# Altium integrated library ON Semi Schottky Diodes & Schottky Rectifiers.IntLib: 755 symbols (part 4 of 17)
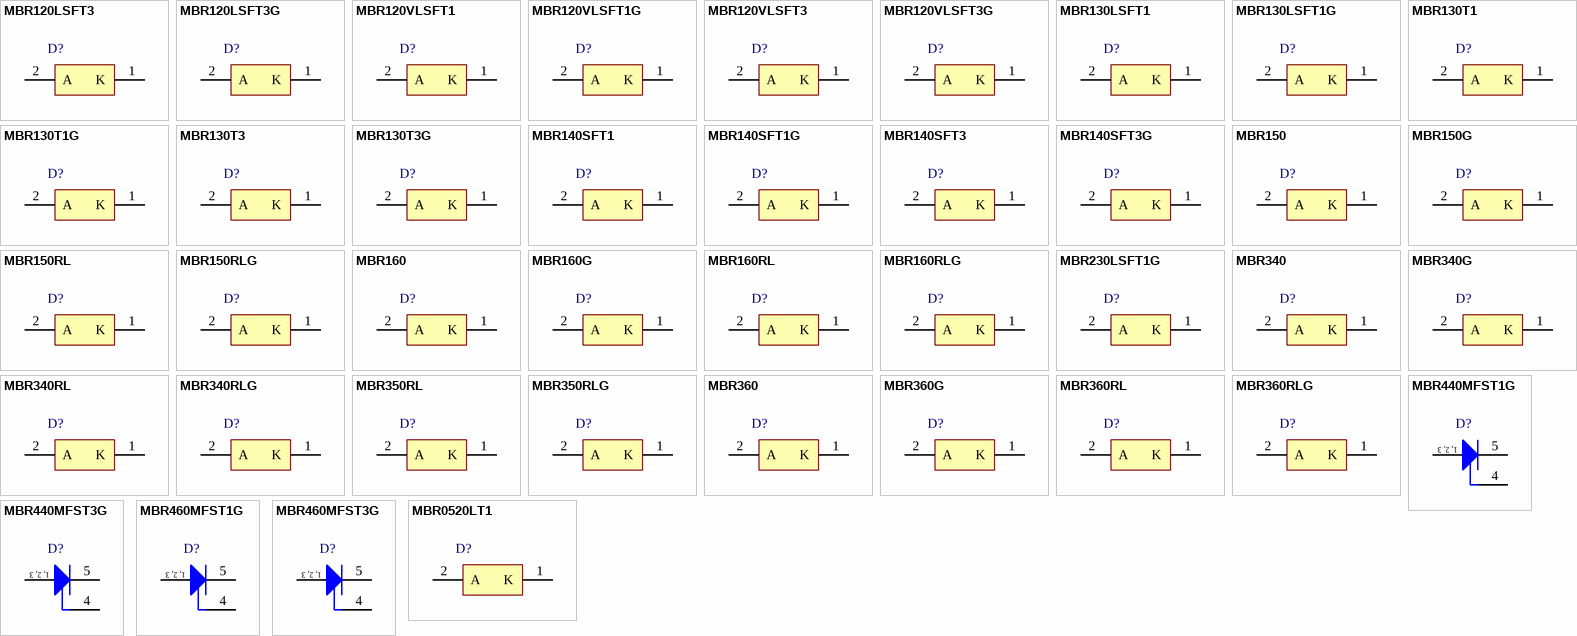
[diagram p22: symbols MBR120LSFT3 to MBR0520LT1]

## MBR360G
designator D?
Rectifier, 2-Pin Axial_Lead, Pb-Free, Bulk Bag; Manufacturer: On Semiconductor; PartNumber: MBR360G; Configuration: Single; IFSM Max (A): 80; DatasheetVersion: Rev. 6; PackageVersion: Rev. G, 06/2000; PackageReference: AXIAL_LEAD-2-267-05; PackageDescription: 2-Pin, Axial Lead, Diameter 5.05 mm; Supplier 1: Digi-Key; Supplier Part Number 1: MBR360GOS-ND; Supplier 2: Farnell; Supplier Part Number 2: 1126228; Supplier 3: Newark; Supplier Part Number 3: 42K0017; Supplier 4: Mouser; Supplier Part Number 4: 863-MBR360G; Packing: Bulk Bag; RoHS: TRUE; Mounting Technology: Through Hole; ComponentLink1Description: Manufacturer URL; ComponentLink1URL: http://www.onsemi.com/; ComponentLink2Description: Datasheet; ComponentLink2URL: http://www.onsemi.cn/pub_link/Collateral/MBR350-D.PDF; ComponentLink3Description: Package Specification; ComponentLink3URL: http://www.onsemi.com/pub_link/Collateral/267-05.PDF
footprint ONSC-AXIAL_LEAD-2-267-05_V (AXIAL, 2-Leads, Diameter 5.05mm)
pins: 1 K, 2 A

## MBR360RL
designator D?
Rectifier, 2-Pin Axial_Lead, Tape and Reel; Manufacturer: On Semiconductor; PartNumber: MBR360RL; Configuration: Single; IFSM Max (A): 80; DatasheetVersion: Rev. 6; PackageVersion: Rev. G, 06/2000; PackageReference: AXIAL_LEAD-2-267-05; PackageDescription: 2-Pin, Axial Lead, Diameter 5.05 mm; Supplier 1: Digi-Key; Supplier Part Number 1: MBR360RLOSTR-ND; Supplier 2: Mouser; Supplier Part Number 2: 863-MBR360RL; Packing: Tape and Reel; RoHS: FALSE; Mounting Technology: Through Hole; ComponentLink1Description: Manufacturer URL; ComponentLink1URL: http://www.onsemi.com/; ComponentLink2Description: Datasheet; ComponentLink2URL: http://www.onsemi.cn/pub_link/Collateral/MBR350-D.PDF; ComponentLink3Description: Package Specification; ComponentLink3URL: http://www.onsemi.com/pub_link/Collateral/267-05.PDF
footprint ONSC-AXIAL_LEAD-2-267-05_V (AXIAL, 2-Leads, Diameter 5.05mm)
pins: 1 K, 2 A

## MBR360RLG
designator D?
Rectifier, 2-Pin Axial_Lead, Pb-Free, Tape and Reel; Manufacturer: On Semiconductor; PartNumber: MBR360RLG; Configuration: Single; IFSM Max (A): 80; DatasheetVersion: Rev. 6; PackageVersion: Rev. G, 06/2000; PackageReference: AXIAL_LEAD-2-267-05; PackageDescription: 2-Pin, Axial Lead, Diameter 5.05 mm; Supplier 1: Digi-Key; Supplier Part Number 1: MBR360RLGOSTR-ND; Supplier 2: Digi-Key; Supplier Part Number 2: MBR360RLGOSCT-ND; Supplier 3: Farnell; Supplier Part Number 3: 1431063; Supplier 4: Newark; Supplier Part Number 4: 58M8804; Supplier 5: Newark; Supplier Part Number 5: 42K0018; Supplier 6: Newark; Supplier Part Number 6: 84K8741; Supplier 7: Mouser; Supplier Part Number 7: 863-MBR360RLG; Packing: Tape and Reel; RoHS: TRUE; Mounting Technology: Through Hole; ComponentLink1Description: Manufacturer URL; ComponentLink1URL: http://www.onsemi.com/; ComponentLink2Description: Datasheet; ComponentLink2URL: http://www.onsemi.cn/pub_link/Collateral/MBR350-D.PDF; ComponentLink3Description: Package Specification; ComponentLink3URL: http://www.onsemi.com/pub_link/Collateral/267-05.PDF
footprint ONSC-AXIAL_LEAD-2-267-05_V (AXIAL, 2-Leads, Diameter 5.05mm)
pins: 1 K, 2 A

## MBR440MFST1G
designator D?
SWITCHMODE(TM) Power Rectifier, 5-Pin DFN, Pb-Free, Tape and Reel; Manufacturer: On Semiconductor; PartNumber: MBR440MFST1G; Configuration: Single; IFSM Max (A): 40; DatasheetVersion: Rev. 1; PackageVersion: Rev. G, 04/2012; PackageReference: DFN-5-488AA_G; PackageDescription: 5-Pin Small Outline No-Lead, Body 4.9 x 5.8 mm, Pitch 1.27 mm; Supplier 1: Newark; Supplier Part Number 1: 97W6133; Supplier 2: Mouser; Supplier Part Number 2: 863-MBR440MFST1G; Packing: Tape and Reel; RoHS: TRUE; Mounting Technology: Surface Mount; ComponentLink1Description: Manufacturer URL; ComponentLink1URL: http://www.onsemi.com/; ComponentLink2Description: Datasheet; ComponentLink2URL: http://www.onsemi.cn/pub_link/Collateral/MBR440MFS-D.PDF; ComponentLink3Description: Package Specification; ComponentLink3URL: http://www.onsemi.com/pub_link/Collateral/MBR5H100MFS-D.PDF
footprint ONSC-DFN-5-488AA_G_V (DFN, 5-Leads, Body 4.9x5.8mm)
pins: 1 A, 2 A, 3 A, 4 NC, 5 K
text: 1, 2, 3

## MBR440MFST3G
designator D?
SWITCHMODE(TM) Power Rectifier, 5-Pin DFN, Pb-Free, Tape and Reel; Manufacturer: On Semiconductor; PartNumber: MBR440MFST3G; Configuration: Single; IFSM Max (A): 40; DatasheetVersion: Rev. 1; PackageVersion: Rev. G, 04/2012; PackageReference: DFN-5-488AA_G; PackageDescription: 5-Pin Small Outline No-Lead, Body 4.9 x 5.8 mm, Pitch 1.27 mm; Supplier 1: Newark; Supplier Part Number 1: 97W6134; Supplier 2: Mouser; Supplier Part Number 2: 863-MBR440MFST3G; Packing: Tape and Reel; RoHS: TRUE; Mounting Technology: Surface Mount; ComponentLink1Description: Manufacturer URL; ComponentLink1URL: http://www.onsemi.com/; ComponentLink2Description: Datasheet; ComponentLink2URL: http://www.onsemi.cn/pub_link/Collateral/MBR440MFS-D.PDF; ComponentLink3Description: Package Specification; ComponentLink3URL: http://www.onsemi.com/pub_link/Collateral/MBR5H100MFS-D.PDF
footprint ONSC-DFN-5-488AA_G_V (DFN, 5-Leads, Body 4.9x5.8mm)
pins: 1 A, 2 A, 3 A, 4 NC, 5 K
text: 1, 2, 3

## MBR460MFST1G
designator D?
SWITCHMODE(TM) Power Rectifier, 5-Pin DFN, Pb-Free, Tape and Reel; Manufacturer: On Semiconductor; PartNumber: MBR460MFST1G; Configuration: Single; IFSM Max (A): 40; DatasheetVersion: Rev. 0; PackageVersion: Rev. G, 04/2012; PackageReference: DFN-5-488AA_G; PackageDescription: 5-Pin Small Outline No-Lead, Body 4.9 x 5.8 mm, Pitch 1.27 mm; Supplier 1: Newark; Supplier Part Number 1: 97W6135; Supplier 2: Mouser; Supplier Part Number 2: 863-MBR460MFST1G; Packing: Tape and Reel; RoHS: TRUE; Mounting Technology: Surface Mount; ComponentLink1Description: Manufacturer URL; ComponentLink1URL: http://www.onsemi.com/; ComponentLink2Description: Datasheet; ComponentLink2URL: http://www.onsemi.cn/pub_link/Collateral/MBR460MFS-D.PDF; ComponentLink3Description: Package Specification; ComponentLink3URL: http://www.onsemi.com/pub_link/Collateral/MBR5H100MFS-D.PDF
footprint ONSC-DFN-5-488AA_G_V (DFN, 5-Leads, Body 4.9x5.8mm)
pins: 1 A, 2 A, 3 A, 4 NC, 5 K
text: 1, 2, 3

## MBR460MFST3G
designator D?
SWITCHMODE(TM) Power Rectifier, 5-Pin DFN, Pb-Free, Tape and Reel; Manufacturer: On Semiconductor; PartNumber: MBR460MFST3G; Configuration: Single; IFSM Max (A): 40; DatasheetVersion: Rev. 0; PackageVersion: Rev. G, 04/2012; PackageReference: DFN-5-488AA_G; PackageDescription: 5-Pin Small Outline No-Lead, Body 4.9 x 5.8 mm, Pitch 1.27 mm; Supplier 1: Newark; Supplier Part Number 1: 97W6136; Supplier 2: Mouser; Supplier Part Number 2: 863-MBR460MFST3G; Packing: Tape and Reel; RoHS: TRUE; Mounting Technology: Surface Mount; ComponentLink1Description: Manufacturer URL; ComponentLink1URL: http://www.onsemi.com/; ComponentLink2Description: Datasheet; ComponentLink2URL: http://www.onsemi.cn/pub_link/Collateral/MBR460MFS-D.PDF; ComponentLink3Description: Package Specification; ComponentLink3URL: http://www.onsemi.com/pub_link/Collateral/MBR5H100MFS-D.PDF
footprint ONSC-DFN-5-488AA_G_V (DFN, 5-Leads, Body 4.9x5.8mm)
pins: 1 A, 2 A, 3 A, 4 NC, 5 K
text: 1, 2, 3

## MBR0520LT1
designator D?
Schottky Power Rectifier, 2-Pin SOD-123, Tape and Reel; Manufacturer: On Semiconductor; PartNumber: MBR0520LT1; Configuration: Single; IFSM Max (A): 5.5; DatasheetVersion: Rev. 6; PackageVersion: Rev. G, 10/2009; PackageReference: SOD-123-2-425-04; PackageDescription: 2-Pin SOD, Body 1.6 x 2.69 mm; Supplier 1: Digi-Key; Supplier Part Number 1: MBR0520LT1OSCT-ND; Packing: Tape and Reel; RoHS: FALSE; Mounting Technology: Surface Mount; ComponentLink1Description: Manufacturer URL; ComponentLink1URL: http://www.onsemi.com/; ComponentLink2Description: Datasheet; ComponentLink2URL: http://www.onsemi.cn/pub_link/Collateral/MBR0520LT1-D.PDF; ComponentLink3Description: Package Specification; ComponentLink3URL: http://www.onsemi.com/pub_link/Collateral/425-04.PDF
footprint ONSC-SOD-123-2-425-04_V (SOD, 2-Leads, Body 2.69x1.6mm)
pins: 1 K, 2 A

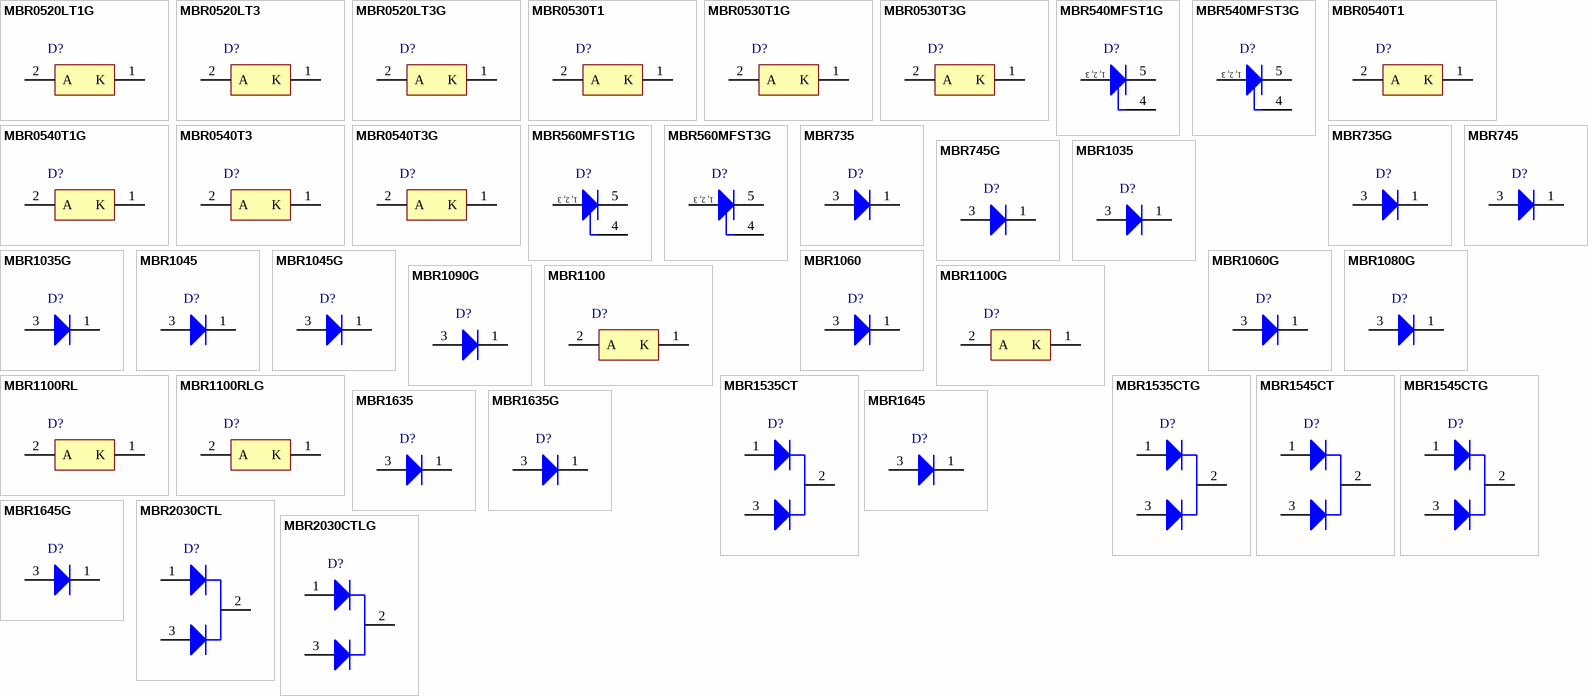
[diagram p4: symbols MBR0520LT1G to MBR2030CTLG]

## MBR0520LT1G
designator D?
Schottky Power Rectifier, 2-Pin SOD-123, Pb-Free, Tape and Reel; Manufacturer: On Semiconductor; PartNumber: MBR0520LT1G; Configuration: Single; IFSM Max (A): 5.5; DatasheetVersion: Rev. 6; PackageVersion: Rev. G, 10/2009; PackageReference: SOD-123-2-425-04; PackageDescription: 2-Pin SOD, Body 1.6 x 2.69 mm; Supplier 1: Farnell; Supplier Part Number 1: 9556915; Supplier 2: Farnell; Supplier Part Number 2: 9556915RL; Supplier 3: Farnell; Supplier Part Number 3: 2317669; Supplier 4: Farnell; Supplier Part Number 4: 1562304; Supplier 5: Newark; Supplier Part Number 5: 48K7498; Supplier 6: Newark; Supplier Part Number 6: 83H7278; Supplier 7: Newark; Supplier Part Number 7: 28X7856; Supplier 8: Mouser; Supplier Part Number 8: 863-MBR0520LT1G; Packing: Tape and Reel; RoHS: TRUE; Mounting Technology: Surface Mount; ComponentLink1Description: Manufacturer URL; ComponentLink1URL: http://www.onsemi.com/; ComponentLink2Description: Datasheet; ComponentLink2URL: http://www.onsemi.cn/pub_link/Collateral/MBR0520LT1-D.PDF; ComponentLink3Description: Package Specification; ComponentLink3URL: http://www.onsemi.com/pub_link/Collateral/425-04.PDF
footprint ONSC-SOD-123-2-425-04_V (SOD, 2-Leads, Body 2.69x1.6mm)
pins: 1 K, 2 A

## MBR0520LT3
designator D?
Schottky Power Rectifier, 2-Pin SOD-123, Tape and Reel; Manufacturer: On Semiconductor; PartNumber: MBR0520LT3; Configuration: Single; IFSM Max (A): 5.5; DatasheetVersion: Rev. 6; PackageVersion: Rev. G, 10/2009; PackageReference: SOD-123-2-425-04; PackageDescription: 2-Pin SOD, Body 1.6 x 2.69 mm; Supplier 1: Digi-Key; Supplier Part Number 1: MBR0520LT3-ND; Packing: Tape and Reel; RoHS: FALSE; Mounting Technology: Surface Mount; ComponentLink1Description: Manufacturer URL; ComponentLink1URL: http://www.onsemi.com/; ComponentLink2Description: Datasheet; ComponentLink2URL: http://www.onsemi.cn/pub_link/Collateral/MBR0520LT1-D.PDF; ComponentLink3Description: Package Specification; ComponentLink3URL: http://www.onsemi.com/pub_link/Collateral/425-04.PDF
footprint ONSC-SOD-123-2-425-04_V (SOD, 2-Leads, Body 2.69x1.6mm)
pins: 1 K, 2 A

## MBR0520LT3G
designator D?
Schottky Power Rectifier, 2-Pin SOD-123, Pb-Free, Tape and Reel; Manufacturer: On Semiconductor; PartNumber: MBR0520LT3G; Configuration: Single; IFSM Max (A): 5.5; DatasheetVersion: Rev. 6; PackageVersion: Rev. G, 10/2009; PackageReference: SOD-123-2-425-04; PackageDescription: 2-Pin SOD, Body 1.6 x 2.69 mm; Supplier 1: Newark; Supplier Part Number 1: 83H7279; Supplier 2: Mouser; Supplier Part Number 2: 863-MBR0520LT3G; Packing: Tape and Reel; RoHS: TRUE; Mounting Technology: Surface Mount; ComponentLink1Description: Manufacturer URL; ComponentLink1URL: http://www.onsemi.com/; ComponentLink2Description: Datasheet; ComponentLink2URL: http://www.onsemi.cn/pub_link/Collateral/MBR0520LT1-D.PDF; ComponentLink3Description: Package Specification; ComponentLink3URL: http://www.onsemi.com/pub_link/Collateral/425-04.PDF
footprint ONSC-SOD-123-2-425-04_V (SOD, 2-Leads, Body 2.69x1.6mm)
pins: 1 K, 2 A

## MBR0530T1
designator D?
Schottky Power Rectifier, 2-Pin SOD-123, Tape and Reel; Manufacturer: On Semiconductor; PartNumber: MBR0530T1; Note: 0; Configuration: Single; IFSM Max (A): 5.5; DatasheetVersion: Rev. 7; PackageVersion: Rev. G, 10/2009; PackageReference: SOD-123-2-425-04; PackageDescription: 2-Pin SOD, Body 1.6 x 2.69 mm; Packing: Tape and Reel; RoHS: FALSE; Mounting Technology: Surface Mount; ComponentLink1Description: Manufacturer URL; ComponentLink1URL: http://www.onsemi.com/; ComponentLink2Description: Datasheet; ComponentLink2URL: http://www.onsemi.cn/pub_link/Collateral/MBR0530T1-D.PDF; ComponentLink3Description: Package Specification; ComponentLink3URL: http://www.onsemi.com/pub_link/Collateral/425-04.PDF
footprint ONSC-SOD-123-2-425-04_V (SOD, 2-Leads, Body 2.69x1.6mm)
pins: 1 K, 2 A

## MBR0530T1G
designator D?
Schottky Power Rectifier, 2-Pin SOD-123, Pb-Free, Tape and Reel; Manufacturer: On Semiconductor; PartNumber: MBR0530T1G; Configuration: Single; IFSM Max (A): 5.5; DatasheetVersion: Rev. 7; PackageVersion: Rev. G, 10/2009; PackageReference: SOD-123-2-425-04; PackageDescription: 2-Pin SOD, Body 1.6 x 2.69 mm; Supplier 1: Digi-Key; Supplier Part Number 1: MBR0530T1GOSTR-ND; Supplier 2: Digi-Key; Supplier Part Number 2: MBR0530T1GOSCT-ND; Supplier 3: Digi-Key; Supplier Part Number 3: MBR0530T1GOSDKR-ND; Supplier 4: Farnell; Supplier Part Number 4: 2317649; Supplier 5: Farnell; Supplier Part Number 5: 1431036RL; Supplier 6: Farnell; Supplier Part Number 6: 1431036; Supplier 7: Newark; Supplier Part Number 7: 48K7499; Supplier 8: Newark; Supplier Part Number 8: 83H7280; Supplier 9: Newark; Supplier Part Number 9: 28X7857; Supplier 10: Mouser; Supplier Part Number 10: 863-MBR0530T1G; Packing: Tape and Reel; RoHS: TRUE; Mounting Technology: Surface Mount; ComponentLink1Description: Manufacturer URL; ComponentLink1URL: http://www.onsemi.com/; ComponentLink2Description: Datasheet; ComponentLink2URL: http://www.onsemi.cn/pub_link/Collateral/MBR0530T1-D.PDF; ComponentLink3Description: Package Specification; ComponentLink3URL: http://www.onsemi.com/pub_link/Collateral/425-04.PDF
footprint ONSC-SOD-123-2-425-04_V (SOD, 2-Leads, Body 2.69x1.6mm)
pins: 1 K, 2 A

## MBR0530T3G
designator D?
Schottky Power Rectifier, 2-Pin SOD-123, Pb-Free, Tape and Reel; Manufacturer: On Semiconductor; PartNumber: MBR0530T3G; Configuration: Single; IFSM Max (A): 5.5; DatasheetVersion: Rev. 7; PackageVersion: Rev. G, 10/2009; PackageReference: SOD-123-2-425-04; PackageDescription: 2-Pin SOD, Body 1.6 x 2.69 mm; Supplier 1: Farnell; Supplier Part Number 1: 1262626; Supplier 2: Newark; Supplier Part Number 2: 41K9993; Supplier 3: Mouser; Supplier Part Number 3: 863-MBR0530T3G; Packing: Tape and Reel; RoHS: TRUE; Mounting Technology: Surface Mount; ComponentLink1Description: Manufacturer URL; ComponentLink1URL: http://www.onsemi.com/; ComponentLink2Description: Datasheet; ComponentLink2URL: http://www.onsemi.cn/pub_link/Collateral/MBR0530T1-D.PDF; ComponentLink3Description: Package Specification; ComponentLink3URL: http://www.onsemi.com/pub_link/Collateral/425-04.PDF
footprint ONSC-SOD-123-2-425-04_V (SOD, 2-Leads, Body 2.69x1.6mm)
pins: 1 K, 2 A

## MBR540MFST1G
designator D?
SWITCHMODE(TM) Power Rectifier, 5-Pin DFN, Pb-Free, Tape and Reel; Manufacturer: On Semiconductor; PartNumber: MBR540MFST1G; Configuration: Single; IFSM Max (A): 150; DatasheetVersion: Rev. 0; PackageVersion: Rev. H, 03/2013; PackageReference: DFN-5-488AA; PackageDescription: 5-Pin Small Outline No-Lead, Body 4.9 x 5.9 mm, Pitch 1.27 mm; Supplier 1: Newark; Supplier Part Number 1: 97W6139; Supplier 2: Mouser; Supplier Part Number 2: 863-MBR540MFST1G; Packing: Tape and Reel; RoHS: TRUE; Mounting Technology: Surface Mount; Code_JEDEC: MO-240A; ComponentLink1Description: Manufacturer URL; ComponentLink1URL: http://www.onsemi.com/; ComponentLink2Description: Datasheet; ComponentLink2URL: http://www.onsemi.cn/pub_link/Collateral/MBR540MFS-D.PDF; ComponentLink3Description: Package Specification; ComponentLink3URL: http://www.onsemi.com/pub_link/Collateral/488AA.PDF
footprint ONSC-DFN-5-488AA_V (DFN, 5-Leads, Body 5.9x4.9mm, Pitch 1.27mm)
pins: 1 A, 2 A, 3 A, 4 NC, 5 K
text: 1, 2, 3

## MBR540MFST3G
designator D?
SWITCHMODE(TM) Power Rectifier, 5-Pin DFN, Pb-Free, Tape and Reel; Manufacturer: On Semiconductor; PartNumber: MBR540MFST3G; Configuration: Single; IFSM Max (A): 150; DatasheetVersion: Rev. 0; PackageVersion: Rev. H, 03/2013; PackageReference: DFN-5-488AA; PackageDescription: 5-Pin Small Outline No-Lead, Body 4.9 x 5.9 mm, Pitch 1.27 mm; Supplier 1: Newark; Supplier Part Number 1: 97W6140; Supplier 2: Mouser; Supplier Part Number 2: 863-MBR540MFST3G; Packing: Tape and Reel; RoHS: TRUE; Mounting Technology: Surface Mount; Code_JEDEC: MO-240A; ComponentLink1Description: Manufacturer URL; ComponentLink1URL: http://www.onsemi.com/; ComponentLink2Description: Datasheet; ComponentLink2URL: http://www.onsemi.cn/pub_link/Collateral/MBR540MFS-D.PDF; ComponentLink3Description: Package Specification; ComponentLink3URL: http://www.onsemi.com/pub_link/Collateral/488AA.PDF
footprint ONSC-DFN-5-488AA_V (DFN, 5-Leads, Body 5.9x4.9mm, Pitch 1.27mm)
pins: 1 A, 2 A, 3 A, 4 NC, 5 K
text: 1, 2, 3

## MBR0540T1
designator D?
Schottky Power Rectifier, 2-Pin SOD-123, Tape and Reel; Manufacturer: On Semiconductor; PartNumber: MBR0540T1; Note: 0; Configuration: Single; IFSM Max (A): 5.5; DatasheetVersion: Rev. 7; PackageVersion: Rev. G, 10/2009; PackageReference: SOD-123-2-425-04; PackageDescription: 2-Pin SOD, Body 1.6 x 2.69 mm; Packing: Tape and Reel; RoHS: FALSE; Mounting Technology: Surface Mount; ComponentLink1Description: Manufacturer URL; ComponentLink1URL: http://www.onsemi.com/; ComponentLink2Description: Datasheet; ComponentLink2URL: http://www.onsemi.cn/pub_link/Collateral/MBR0540T1-D.PDF; ComponentLink3Description: Package Specification; ComponentLink3URL: http://www.onsemi.com/pub_link/Collateral/425-04.PDF
footprint ONSC-SOD-123-2-425-04_V (SOD, 2-Leads, Body 2.69x1.6mm)
pins: 1 K, 2 A

## MBR0540T1G
designator D?
Schottky Power Rectifier, 2-Pin SOD-123, Pb-Free, Tape and Reel; Manufacturer: On Semiconductor; PartNumber: MBR0540T1G; Configuration: Single; IFSM Max (A): 5.5; DatasheetVersion: Rev. 7; PackageVersion: Rev. G, 10/2009; PackageReference: SOD-123-2-425-04; PackageDescription: 2-Pin SOD, Body 1.6 x 2.69 mm; Supplier 1: Farnell; Supplier Part Number 1: 9556923RL; Supplier 2: Farnell; Supplier Part Number 2: 9556923; Supplier 3: Farnell; Supplier Part Number 3: 2317654; Supplier 4: Newark; Supplier Part Number 4: 67R1320; Supplier 5: Newark; Supplier Part Number 5: 83H7281; Supplier 6: Newark; Supplier Part Number 6: 28X7858; Supplier 7: Mouser; Supplier Part Number 7: 863-MBR0540T1G; Packing: Tape and Reel; RoHS: TRUE; Mounting Technology: Surface Mount; ComponentLink1Description: Manufacturer URL; ComponentLink1URL: http://www.onsemi.com/; ComponentLink2Description: Datasheet; ComponentLink2URL: http://www.onsemi.cn/pub_link/Collateral/MBR0540T1-D.PDF; ComponentLink3Description: Package Specification; ComponentLink3URL: http://www.onsemi.com/pub_link/Collateral/425-04.PDF
footprint ONSC-SOD-123-2-425-04_V (SOD, 2-Leads, Body 2.69x1.6mm)
pins: 1 K, 2 A

## MBR0540T3
designator D?
Schottky Power Rectifier, 2-Pin SOD-123, Tape and Reel; Manufacturer: On Semiconductor; PartNumber: MBR0540T3; Note: 0; Configuration: Single; IFSM Max (A): 5.5; DatasheetVersion: Rev. 7; PackageVersion: Rev. G, 10/2009; PackageReference: SOD-123-2-425-04; PackageDescription: 2-Pin SOD, Body 1.6 x 2.69 mm; Packing: Tape and Reel; RoHS: FALSE; Mounting Technology: Surface Mount; ComponentLink1Description: Manufacturer URL; ComponentLink1URL: http://www.onsemi.com/; ComponentLink2Description: Datasheet; ComponentLink2URL: http://www.onsemi.cn/pub_link/Collateral/MBR0540T1-D.PDF; ComponentLink3Description: Package Specification; ComponentLink3URL: http://www.onsemi.com/pub_link/Collateral/425-04.PDF
footprint ONSC-SOD-123-2-425-04_V (SOD, 2-Leads, Body 2.69x1.6mm)
pins: 1 K, 2 A

## MBR0540T3G
designator D?
Schottky Power Rectifier, 2-Pin SOD-123, Pb-Free, Tape and Reel; Manufacturer: On Semiconductor; PartNumber: MBR0540T3G; Configuration: Single; IFSM Max (A): 5.5; DatasheetVersion: Rev. 7; PackageVersion: Rev. G, 10/2009; PackageReference: SOD-123-2-425-04; PackageDescription: 2-Pin SOD, Body 1.6 x 2.69 mm; Supplier 1: Digi-Key; Supplier Part Number 1: MBR0540T3GOSTR-ND; Supplier 2: Digi-Key; Supplier Part Number 2: MBR0540T3GOSCT-ND; Supplier 3: Digi-Key; Supplier Part Number 3: MBR0540T3GOSDKR-ND; Supplier 4: Farnell; Supplier Part Number 4: 1705067; Supplier 5: Newark; Supplier Part Number 5: 98H0599; Supplier 6: Mouser; Supplier Part Number 6: 863-MBR0540T3G; Packing: Tape and Reel; RoHS: TRUE; Mounting Technology: Surface Mount; ComponentLink1Description: Manufacturer URL; ComponentLink1URL: http://www.onsemi.com/; ComponentLink2Description: Datasheet; ComponentLink2URL: http://www.onsemi.cn/pub_link/Collateral/MBR0540T1-D.PDF; ComponentLink3Description: Package Specification; ComponentLink3URL: http://www.onsemi.com/pub_link/Collateral/425-04.PDF
footprint ONSC-SOD-123-2-425-04_V (SOD, 2-Leads, Body 2.69x1.6mm)
pins: 1 K, 2 A

## MBR560MFST1G
designator D?
SWITCHMODE(TM) Power Rectifier, 5-Pin DFN, Pb-Free, Tape and Reel; Manufacturer: On Semiconductor; PartNumber: MBR560MFST1G; Configuration: Single; IFSM Max (A): 100; DatasheetVersion: Rev. 1; PackageVersion: Rev. G, 04/2012; PackageReference: DFN-5-488AA_G; PackageDescription: 5-Pin Small Outline No-Lead, Body 4.9 x 5.8 mm, Pitch 1.27 mm; Supplier 1: Newark; Supplier Part Number 1: 97W6141; Supplier 2: Mouser; Supplier Part Number 2: 863-MBR560MFST1G; Packing: Tape and Reel; RoHS: TRUE; Mounting Technology: Surface Mount; ComponentLink1Description: Manufacturer URL; ComponentLink1URL: http://www.onsemi.com/; ComponentLink2Description: Datasheet; ComponentLink2URL: http://www.onsemi.cn/pub_link/Collateral/MBR560MFS-D.PDF; ComponentLink3Description: Package Specification; ComponentLink3URL: http://www.onsemi.com/pub_link/Collateral/MBR5H100MFS-D.PDF
footprint ONSC-DFN-5-488AA_G_V (DFN, 5-Leads, Body 4.9x5.8mm)
pins: 1 A, 2 A, 3 A, 4 NC, 5 K
text: 1, 2, 3

## MBR560MFST3G
designator D?
SWITCHMODE(TM) Power Rectifier, 5-Pin DFN, Pb-Free, Tape and Reel; Manufacturer: On Semiconductor; PartNumber: MBR560MFST3G; Configuration: Single; IFSM Max (A): 100; DatasheetVersion: Rev. 1; PackageVersion: Rev. G, 04/2012; PackageReference: DFN-5-488AA_G; PackageDescription: 5-Pin Small Outline No-Lead, Body 4.9 x 5.8 mm, Pitch 1.27 mm; Supplier 1: Newark; Supplier Part Number 1: 97W6142; Supplier 2: Mouser; Supplier Part Number 2: 863-MBR560MFST3G; Packing: Tape and Reel; RoHS: TRUE; Mounting Technology: Surface Mount; ComponentLink1Description: Manufacturer URL; ComponentLink1URL: http://www.onsemi.com/; ComponentLink2Description: Datasheet; ComponentLink2URL: http://www.onsemi.cn/pub_link/Collateral/MBR560MFS-D.PDF; ComponentLink3Description: Package Specification; ComponentLink3URL: http://www.onsemi.com/pub_link/Collateral/MBR5H100MFS-D.PDF
footprint ONSC-DFN-5-488AA_G_V (DFN, 5-Leads, Body 4.9x5.8mm)
pins: 1 A, 2 A, 3 A, 4 NC, 5 K
text: 1, 2, 3

## MBR735
designator D?
SWITCHMODE(TM) Power Rectifier, 2-Pin TO-220, Tube; Manufacturer: On Semiconductor; PartNumber: MBR735; Configuration: Single; IFSM Max (A): 150; DatasheetVersion: Rev. 8; PackageVersion: Rev. E; PackageReference: TO-220-2-221B-04_E; PackageDescription: 2-Pin Flange Mount, Vertical Straight Lead, Body 9.97 x 4.44 mm, Pitch 5.08 mm; Supplier 1: Digi-Key; Supplier Part Number 1: MBR735OS-ND; Packing: Tube; RoHS: FALSE; Mounting Technology: Through Hole; ComponentLink1Description: Manufacturer URL; ComponentLink1URL: http://www.onsemi.com/; ComponentLink2Description: Datasheet; ComponentLink2URL: http://www.onsemi.cn/pub_link/Collateral/MBR735-D.PDF; ComponentLink3Description: Package Specification; ComponentLink3URL: http://www.onsemi.com/pub_link/Collateral/BYW29-D.PDF
footprint ONSC-TO-220-2-221B-04_E (FM, 2-Leads, Body 10.3x4.85mm, Pitch 5.08mm)
pins: 1 K, 3 A

## MBR735G
designator D?
SWITCHMODE(TM) Power Rectifier, 2-Pin TO-220, Pb-Free, Tube; Manufacturer: On Semiconductor; PartNumber: MBR735G; Configuration: Single; IFSM Max (A): 150; DatasheetVersion: Rev. 8; PackageVersion: Rev. E; PackageReference: TO-220-2-221B-04_E; PackageDescription: 2-Pin Flange Mount, Vertical Straight Lead, Body 9.97 x 4.44 mm, Pitch 5.08 mm; Supplier 1: Digi-Key; Supplier Part Number 1: MBR735GOS-ND; Supplier 2: Newark; Supplier Part Number 2: 98H0606; Supplier 3: Mouser; Supplier Part Number 3: 863-MBR735G; Packing: Tube; RoHS: TRUE; Mounting Technology: Through Hole; ComponentLink1Description: Manufacturer URL; ComponentLink1URL: http://www.onsemi.com/; ComponentLink2Description: Datasheet; ComponentLink2URL: http://www.onsemi.cn/pub_link/Collateral/MBR735-D.PDF; ComponentLink3Description: Package Specification; ComponentLink3URL: http://www.onsemi.com/pub_link/Collateral/BYW29-D.PDF
footprint ONSC-TO-220-2-221B-04_E (FM, 2-Leads, Body 10.3x4.85mm, Pitch 5.08mm)
pins: 1 K, 3 A

## MBR745
designator D?
SWITCHMODE(TM) Power Rectifier, 2-Pin TO-220, Tube; Manufacturer: On Semiconductor; PartNumber: MBR745; Configuration: Single; IFSM Max (A): 150; DatasheetVersion: Rev. 8; PackageVersion: Rev. E; PackageReference: TO-220-2-221B-04_E; PackageDescription: 2-Pin Flange Mount, Vertical Straight Lead, Body 9.97 x 4.44 mm, Pitch 5.08 mm; Supplier 1: Digi-Key; Supplier Part Number 1: MBR745OS-ND; Packing: Tube; RoHS: FALSE; Mounting Technology: Through Hole; ComponentLink1Description: Manufacturer URL; ComponentLink1URL: http://www.onsemi.com/; ComponentLink2Description: Datasheet; ComponentLink2URL: http://www.onsemi.cn/pub_link/Collateral/MBR735-D.PDF; ComponentLink3Description: Package Specification; ComponentLink3URL: http://www.onsemi.com/pub_link/Collateral/BYW29-D.PDF
footprint ONSC-TO-220-2-221B-04_E (FM, 2-Leads, Body 10.3x4.85mm, Pitch 5.08mm)
pins: 1 K, 3 A

## MBR745G
designator D?
SWITCHMODE(TM) Power Rectifier, 2-Pin TO-220, Pb-Free, Tube; Manufacturer: On Semiconductor; PartNumber: MBR745G; Configuration: Single; IFSM Max (A): 150; DatasheetVersion: Rev. 8; PackageVersion: Rev. E; PackageReference: TO-220-2-221B-04_E; PackageDescription: 2-Pin Flange Mount, Vertical Straight Lead, Body 9.97 x 4.44 mm, Pitch 5.08 mm; Supplier 1: Digi-Key; Supplier Part Number 1: MBR745GOS-ND; Supplier 2: Farnell; Supplier Part Number 2: 9557296; Supplier 3: Newark; Supplier Part Number 3: 45J0808; Supplier 4: Mouser; Supplier Part Number 4: 863-MBR745G; Packing: Tube; RoHS: TRUE; Mounting Technology: Through Hole; ComponentLink1Description: Manufacturer URL; ComponentLink1URL: http://www.onsemi.com/; ComponentLink2Description: Datasheet; ComponentLink2URL: http://www.onsemi.cn/pub_link/Collateral/MBR735-D.PDF; ComponentLink3Description: Package Specification; ComponentLink3URL: http://www.onsemi.com/pub_link/Collateral/BYW29-D.PDF
footprint ONSC-TO-220-2-221B-04_E (FM, 2-Leads, Body 10.3x4.85mm, Pitch 5.08mm)
pins: 1 K, 3 A

## MBR1035
designator D?
SWITCHMODE(TM) Power Rectifier, 2-Pin TO-220, Tube; Manufacturer: On Semiconductor; PartNumber: MBR1035; Configuration: Single; IFSM Max (A): 150; DatasheetVersion: Rev. 8; PackageVersion: Rev. E; PackageReference: TO-220-2-221B-04_E; PackageDescription: 2-Pin Flange Mount, Vertical Straight Lead, Body 9.97 x 4.44 mm, Pitch 5.08 mm; Supplier 1: Digi-Key; Supplier Part Number 1: MBR1035OS-ND; Packing: Tube; RoHS: FALSE; Mounting Technology: Through Hole; ComponentLink1Description: Manufacturer URL; ComponentLink1URL: http://www.onsemi.com/; ComponentLink2Description: Datasheet; ComponentLink2URL: http://www.onsemi.cn/pub_link/Collateral/MBR1035-D.PDF; ComponentLink3Description: Package Specification; ComponentLink3URL: http://www.onsemi.com/pub_link/Collateral/BYW29-D.PDF
footprint ONSC-TO-220-2-221B-04_E (FM, 2-Leads, Body 10.3x4.85mm, Pitch 5.08mm)
pins: 1 K, 3 A

## MBR1035G
designator D?
SWITCHMODE(TM) Power Rectifier, 2-Pin TO-220, Pb-Free, Tube; Manufacturer: On Semiconductor; PartNumber: MBR1035G; Configuration: Single; IFSM Max (A): 150; DatasheetVersion: Rev. 8; PackageVersion: Rev. E; PackageReference: TO-220-2-221B-04_E; PackageDescription: 2-Pin Flange Mount, Vertical Straight Lead, Body 9.97 x 4.44 mm, Pitch 5.08 mm; Supplier 1: Digi-Key; Supplier Part Number 1: MBR1035GOS-ND; Supplier 2: Newark; Supplier Part Number 2: 45J0797; Supplier 3: Mouser; Supplier Part Number 3: 863-MBR1035G; Packing: Tube; RoHS: TRUE; Mounting Technology: Through Hole; ComponentLink1Description: Manufacturer URL; ComponentLink1URL: http://www.onsemi.com/; ComponentLink2Description: Datasheet; ComponentLink2URL: http://www.onsemi.cn/pub_link/Collateral/MBR1035-D.PDF; ComponentLink3Description: Package Specification; ComponentLink3URL: http://www.onsemi.com/pub_link/Collateral/BYW29-D.PDF
footprint ONSC-TO-220-2-221B-04_E (FM, 2-Leads, Body 10.3x4.85mm, Pitch 5.08mm)
pins: 1 K, 3 A

## MBR1045
designator D?
SWITCHMODE(TM) Power Rectifier, 2-Pin TO-220, Tube; Manufacturer: On Semiconductor; PartNumber: MBR1045; Configuration: Single; IFSM Max (A): 150; DatasheetVersion: Rev. 8; PackageVersion: Rev. E; PackageReference: TO-220-2-221B-04_E; PackageDescription: 2-Pin Flange Mount, Vertical Straight Lead, Body 9.97 x 4.44 mm, Pitch 5.08 mm; Supplier 1: Digi-Key; Supplier Part Number 1: MBR1045OS-ND; Packing: Tube; RoHS: FALSE; Mounting Technology: Through Hole; ComponentLink1Description: Manufacturer URL; ComponentLink1URL: http://www.onsemi.com/; ComponentLink2Description: Datasheet; ComponentLink2URL: http://www.onsemi.cn/pub_link/Collateral/MBR1035-D.PDF; ComponentLink3Description: Package Specification; ComponentLink3URL: http://www.onsemi.com/pub_link/Collateral/BYW29-D.PDF
footprint ONSC-TO-220-2-221B-04_E (FM, 2-Leads, Body 10.3x4.85mm, Pitch 5.08mm)
pins: 1 K, 3 A

## MBR1045G
designator D?
SWITCHMODE(TM) Power Rectifier, 2-Pin TO-220, Pb-Free, Tube; Manufacturer: On Semiconductor; PartNumber: MBR1045G; Configuration: Single; IFSM Max (A): 150; DatasheetVersion: Rev. 8; PackageVersion: Rev. E; PackageReference: TO-220-2-221B-04_E; PackageDescription: 2-Pin Flange Mount, Vertical Straight Lead, Body 9.97 x 4.44 mm, Pitch 5.08 mm; Supplier 1: Digi-Key; Supplier Part Number 1: MBR1045GOS-ND; Supplier 2: Farnell; Supplier Part Number 2: 9557342; Supplier 3: Newark; Supplier Part Number 3: 38K4495; Supplier 4: Newark; Supplier Part Number 4: 45J0798; Supplier 5: Mouser; Supplier Part Number 5: 863-MBR1045G; Packing: Tube; RoHS: TRUE; Mounting Technology: Through Hole; ComponentLink1Description: Manufacturer URL; ComponentLink1URL: http://www.onsemi.com/; ComponentLink2Description: Datasheet; ComponentLink2URL: http://www.onsemi.cn/pub_link/Collateral/MBR1035-D.PDF; ComponentLink3Description: Package Specification; ComponentLink3URL: http://www.onsemi.com/pub_link/Collateral/BYW29-D.PDF
footprint ONSC-TO-220-2-221B-04_E (FM, 2-Leads, Body 10.3x4.85mm, Pitch 5.08mm)
pins: 1 K, 3 A

## MBR1060
designator D?
SWITCHMODE(TM) Power Rectifier, 2-Pin TO-220, Tube; Manufacturer: On Semiconductor; PartNumber: MBR1060; Note: 0; Configuration: Single; IFSM Max (A): 150; DatasheetVersion: Rev. 11; PackageVersion: Rev. E; PackageReference: TO-220-2-221B-04_E; PackageDescription: 2-Pin Flange Mount, Vertical Straight Lead, Body 9.97 x 4.44 mm, Pitch 5.08 mm; Packing: Tube; RoHS: FALSE; Mounting Technology: Through Hole; ComponentLink1Description: Manufacturer URL; ComponentLink1URL: http://www.onsemi.com/; ComponentLink2Description: Datasheet; ComponentLink2URL: http://www.onsemi.cn/pub_link/Collateral/MBR1060-D.PDF; ComponentLink3Description: Package Specification; ComponentLink3URL: http://www.onsemi.com/pub_link/Collateral/BYW29-D.PDF
footprint ONSC-TO-220-2-221B-04_E (FM, 2-Leads, Body 10.3x4.85mm, Pitch 5.08mm)
pins: 1 K, 3 A

## MBR1060G
designator D?
SWITCHMODE(TM) Power Rectifier, 2-Pin TO-220, Pb-Free, Tube; Manufacturer: On Semiconductor; PartNumber: MBR1060G; Configuration: Single; IFSM Max (A): 150; DatasheetVersion: Rev. 11; PackageVersion: Rev. E; PackageReference: TO-220-2-221B-04_E; PackageDescription: 2-Pin Flange Mount, Vertical Straight Lead, Body 9.97 x 4.44 mm, Pitch 5.08 mm; Supplier 1: Farnell; Supplier Part Number 1: 9557385; Supplier 2: Newark; Supplier Part Number 2: 98H0600; Supplier 3: Mouser; Supplier Part Number 3: 863-MBR1060G; Packing: Tube; RoHS: TRUE; Mounting Technology: Through Hole; ComponentLink1Description: Manufacturer URL; ComponentLink1URL: http://www.onsemi.com/; ComponentLink2Description: Datasheet; ComponentLink2URL: http://www.onsemi.cn/pub_link/Collateral/MBR1060-D.PDF; ComponentLink3Description: Package Specification; ComponentLink3URL: http://www.onsemi.com/pub_link/Collateral/BYW29-D.PDF
footprint ONSC-TO-220-2-221B-04_E (FM, 2-Leads, Body 10.3x4.85mm, Pitch 5.08mm)
pins: 1 K, 3 A

## MBR1080G
designator D?
SWITCHMODE(TM) Power Rectifier, 2-Pin TO-220, Pb-Free, Tube; Manufacturer: On Semiconductor; PartNumber: MBR1080G; Configuration: Single; IFSM Max (A): 150; DatasheetVersion: Rev. 1; PackageVersion: Rev. E; PackageReference: TO-220-2-221B-04_E; PackageDescription: 2-Pin Flange Mount, Vertical Straight Lead, Body 9.97 x 4.44 mm, Pitch 5.08 mm; Supplier 1: Farnell; Supplier Part Number 1: 1431038; Supplier 2: Newark; Supplier Part Number 2: 41K9994; Supplier 3: Mouser; Supplier Part Number 3: 863-MBR1080G; Packing: Tube; RoHS: TRUE; Mounting Technology: Through Hole; ComponentLink1Description: Manufacturer URL; ComponentLink1URL: http://www.onsemi.com/; ComponentLink2Description: Datasheet; ComponentLink2URL: http://www.onsemi.cn/pub_link/Collateral/MBR1080-D.PDF; ComponentLink3Description: Package Specification; ComponentLink3URL: http://www.onsemi.com/pub_link/Collateral/BYW29-D.PDF
footprint ONSC-TO-220-2-221B-04_E (FM, 2-Leads, Body 10.3x4.85mm, Pitch 5.08mm)
pins: 1 K, 3 A

## MBR1090G
designator D?
SWITCHMODE(TM) Power Rectifier, 2-Pin TO-220, Pb-Free, Tube; Manufacturer: On Semiconductor; PartNumber: MBR1090G; Configuration: Single; IFSM Max (A): 150; DatasheetVersion: Rev. 1; PackageVersion: Rev. E; PackageReference: TO-220-2-221B-04_E; PackageDescription: 2-Pin Flange Mount, Vertical Straight Lead, Body 9.97 x 4.44 mm, Pitch 5.08 mm; Supplier 1: Newark; Supplier Part Number 1: 45J0799; Supplier 2: Mouser; Supplier Part Number 2: 863-MBR1090G; Packing: Tube; RoHS: TRUE; Mounting Technology: Through Hole; ComponentLink1Description: Manufacturer URL; ComponentLink1URL: http://www.onsemi.com/; ComponentLink2Description: Datasheet; ComponentLink2URL: http://www.onsemi.cn/pub_link/Collateral/MBR1080-D.PDF; ComponentLink3Description: Package Specification; ComponentLink3URL: http://www.onsemi.com/pub_link/Collateral/BYW29-D.PDF
footprint ONSC-TO-220-2-221B-04_E (FM, 2-Leads, Body 10.3x4.85mm, Pitch 5.08mm)
pins: 1 K, 3 A

## MBR1100
designator D?
Rectifier, 2-Pin Axial_Lead, Pb-Free, Bulk Bag; Manufacturer: On Semiconductor; PartNumber: MBR1100; Configuration: Single; IFSM Max (A): 50; DatasheetVersion: Rev. 6; PackageVersion: Rev. U, 02/2005; PackageReference: AXIAL_LEAD-2-59-10; PackageDescription: 2-Pin, Axial Lead, Diameter 2.35 mm; Supplier 1: Digi-Key; Supplier Part Number 1: MBR1100OS-ND; Packing: Bulk Bag; RoHS: TRUE; Mounting Technology: Through Hole; ComponentLink1Description: Manufacturer URL; ComponentLink1URL: http://www.onsemi.com/; ComponentLink2Description: Datasheet; ComponentLink2URL: http://www.onsemi.cn/pub_link/Collateral/MBR1100-D.PDF; ComponentLink3Description: Package Specification; ComponentLink3URL: http://www.onsemi.cn/pub_link/Collateral/59-10.PDF
footprint ONSC-AXIAL_LEAD-2-59-10_P (AXIAL, 2-Leads, Diameter 2.35mm)
pins: 1 K, 2 A

## MBR1100G
designator D?
Rectifier, 2-Pin Axial_Lead, Pb-Free, Bulk Bag; Manufacturer: On Semiconductor; PartNumber: MBR1100G; Configuration: Single; IFSM Max (A): 50; DatasheetVersion: Rev. 6; PackageVersion: Rev. U, 02/2005; PackageReference: AXIAL_LEAD-2-59-10; PackageDescription: 2-Pin, Axial Lead, Diameter 2.35 mm; Supplier 1: Farnell; Supplier Part Number 1: 1143536; Supplier 2: Newark; Supplier Part Number 2: 41K9995; Supplier 3: Mouser; Supplier Part Number 3: 863-MBR1100G; Packing: Bulk Bag; RoHS: TRUE; Mounting Technology: Through Hole; ComponentLink1Description: Manufacturer URL; ComponentLink1URL: http://www.onsemi.com/; ComponentLink2Description: Datasheet; ComponentLink2URL: http://www.onsemi.cn/pub_link/Collateral/MBR1100-D.PDF; ComponentLink3Description: Package Specification; ComponentLink3URL: http://www.onsemi.cn/pub_link/Collateral/59-10.PDF
footprint ONSC-AXIAL_LEAD-2-59-10_P (AXIAL, 2-Leads, Diameter 2.35mm)
pins: 1 K, 2 A

## MBR1100RL
designator D?
Rectifier, 2-Pin Axial_Lead, Pb-Free, Tape and Reel; Manufacturer: On Semiconductor; PartNumber: MBR1100RL; Configuration: Single; IFSM Max (A): 50; DatasheetVersion: Rev. 6; PackageVersion: Rev. U, 02/2005; PackageReference: AXIAL_LEAD-2-59-10; PackageDescription: 2-Pin, Axial Lead, Diameter 2.35 mm; Supplier 1: Digi-Key; Supplier Part Number 1: MBR1100RLOSTR-ND; Supplier 2: Mouser; Supplier Part Number 2: 863-MBR1100RL; Packing: Tape and Reel; RoHS: TRUE; Mounting Technology: Through Hole; ComponentLink1Description: Manufacturer URL; ComponentLink1URL: http://www.onsemi.com/; ComponentLink2Description: Datasheet; ComponentLink2URL: http://www.onsemi.cn/pub_link/Collateral/MBR1100-D.PDF; ComponentLink3Description: Package Specification; ComponentLink3URL: http://www.onsemi.cn/pub_link/Collateral/59-10.PDF
footprint ONSC-AXIAL_LEAD-2-59-10_P (AXIAL, 2-Leads, Diameter 2.35mm)
pins: 1 K, 2 A

## MBR1100RLG
designator D?
Rectifier, 2-Pin Axial_Lead, Pb-Free, Tape and Reel; Manufacturer: On Semiconductor; PartNumber: MBR1100RLG; Configuration: Single; IFSM Max (A): 50; DatasheetVersion: Rev. 6; PackageVersion: Rev. U, 02/2005; PackageReference: AXIAL_LEAD-2-59-10; PackageDescription: 2-Pin, Axial Lead, Diameter 2.35 mm; Supplier 1: Digi-Key; Supplier Part Number 1: MBR1100RLGOSTR-ND; Supplier 2: Digi-Key; Supplier Part Number 2: MBR1100RLGOSCT-ND; Supplier 3: Farnell; Supplier Part Number 3: 9555846; Supplier 4: Newark; Supplier Part Number 4: 41K9996; Supplier 5: Mouser; Supplier Part Number 5: 863-MBR1100RLG; Packing: Tape and Reel; RoHS: TRUE; Mounting Technology: Through Hole; ComponentLink1Description: Manufacturer URL; ComponentLink1URL: http://www.onsemi.com/; ComponentLink2Description: Datasheet; ComponentLink2URL: http://www.onsemi.cn/pub_link/Collateral/MBR1100-D.PDF; ComponentLink3Description: Package Specification; ComponentLink3URL: http://www.onsemi.cn/pub_link/Collateral/59-10.PDF
footprint ONSC-AXIAL_LEAD-2-59-10_P (AXIAL, 2-Leads, Diameter 2.35mm)
pins: 1 K, 2 A

## MBR1535CT
designator D?
SWITCHMODE(TM) Power Rectifier, 3-Pin TO-220, Tube; Manufacturer: On Semiconductor; PartNumber: MBR1535CT; Configuration: Common Cathode; IFSM Max (A): 150; DatasheetVersion: Rev. 8; PackageVersion: Rev. AF; PackageReference: TO-220-3-221A-09_AF; PackageDescription: 3-Pin Flange Mount, Vertical Straight Lead, Body 9.97 x 4.445 mm, Pitch 2.54 mm; Supplier 1: Digi-Key; Supplier Part Number 1: MBR1535CTOS-ND; Packing: Tube; RoHS: FALSE; Mounting Technology: Through Hole; ComponentLink1Description: Manufacturer URL; ComponentLink1URL: http://www.onsemi.com/; ComponentLink2Description: Datasheet; ComponentLink2URL: http://www.onsemi.cn/pub_link/Collateral/MBR1535CT-D.PDF; ComponentLink3Description: Package Specification; ComponentLink3URL: http://www.onsemi.cn/pub_link/Collateral/MCR8S-D.PDF
footprint ONSC-TO-220-3-221A-09_AF (FM, 3-Leads, Body 10.3x4.85mm, Pitch 2.54mm)
pins: 1 A1, 2 K, 3 A2

## MBR1535CTG
designator D?
SWITCHMODE(TM) Power Rectifier, 3-Pin TO-220, Pb-Free, Tube; Manufacturer: On Semiconductor; PartNumber: MBR1535CTG; Configuration: Common Cathode; IFSM Max (A): 150; DatasheetVersion: Rev. 8; PackageVersion: Rev. AF; PackageReference: TO-220-3-221A-09_AF; PackageDescription: 3-Pin Flange Mount, Vertical Straight Lead, Body 9.97 x 4.445 mm, Pitch 2.54 mm; Supplier 1: Digi-Key; Supplier Part Number 1: MBR1535CTGOS-ND; Supplier 2: Newark; Supplier Part Number 2: 98H0602; Supplier 3: Mouser; Supplier Part Number 3: 863-MBR1535CTG; Packing: Tube; RoHS: TRUE; Mounting Technology: Through Hole; ComponentLink1Description: Manufacturer URL; ComponentLink1URL: http://www.onsemi.com/; ComponentLink2Description: Datasheet; ComponentLink2URL: http://www.onsemi.cn/pub_link/Collateral/MBR1535CT-D.PDF; ComponentLink3Description: Package Specification; ComponentLink3URL: http://www.onsemi.cn/pub_link/Collateral/MCR8S-D.PDF
footprint ONSC-TO-220-3-221A-09_AF (FM, 3-Leads, Body 10.3x4.85mm, Pitch 2.54mm)
pins: 1 A1, 2 K, 3 A2

## MBR1545CT
designator D?
SWITCHMODE(TM) Power Rectifier, 3-Pin TO-220, Tube; Manufacturer: On Semiconductor; PartNumber: MBR1545CT; Configuration: Common Cathode; IFSM Max (A): 150; DatasheetVersion: Rev. 8; PackageVersion: Rev. AF; PackageReference: TO-220-3-221A-09_AF; PackageDescription: 3-Pin Flange Mount, Vertical Straight Lead, Body 9.97 x 4.445 mm, Pitch 2.54 mm; Supplier 1: Digi-Key; Supplier Part Number 1: MBR1545CTOS-ND; Packing: Tube; RoHS: FALSE; Mounting Technology: Through Hole; ComponentLink1Description: Manufacturer URL; ComponentLink1URL: http://www.onsemi.com/; ComponentLink2Description: Datasheet; ComponentLink2URL: http://www.onsemi.cn/pub_link/Collateral/MBR1535CT-D.PDF; ComponentLink3Description: Package Specification; ComponentLink3URL: http://www.onsemi.cn/pub_link/Collateral/MCR8S-D.PDF
footprint ONSC-TO-220-3-221A-09_AF (FM, 3-Leads, Body 10.3x4.85mm, Pitch 2.54mm)
pins: 1 A1, 2 K, 3 A2

## MBR1545CTG
designator D?
SWITCHMODE(TM) Power Rectifier, 3-Pin TO-220, Pb-Free, Tube; Manufacturer: On Semiconductor; PartNumber: MBR1545CTG; Configuration: Common Cathode; IFSM Max (A): 150; DatasheetVersion: Rev. 8; PackageVersion: Rev. AF; PackageReference: TO-220-3-221A-09_AF; PackageDescription: 3-Pin Flange Mount, Vertical Straight Lead, Body 9.97 x 4.445 mm, Pitch 2.54 mm; Supplier 1: Digi-Key; Supplier Part Number 1: MBR1545CTGOS-ND; Supplier 2: Farnell; Supplier Part Number 2: 1431049; Supplier 3: Newark; Supplier Part Number 3: 88H4682; Supplier 4: Mouser; Supplier Part Number 4: 863-MBR1545CTG; Packing: Tube; RoHS: TRUE; Mounting Technology: Through Hole; ComponentLink1Description: Manufacturer URL; ComponentLink1URL: http://www.onsemi.com/; ComponentLink2Description: Datasheet; ComponentLink2URL: http://www.onsemi.cn/pub_link/Collateral/MBR1535CT-D.PDF; ComponentLink3Description: Package Specification; ComponentLink3URL: http://www.onsemi.cn/pub_link/Collateral/MCR8S-D.PDF
footprint ONSC-TO-220-3-221A-09_AF (FM, 3-Leads, Body 10.3x4.85mm, Pitch 2.54mm)
pins: 1 A1, 2 K, 3 A2

## MBR1635
designator D?
SWITCHMODE(TM) Power Rectifier, 16 A, 35 V, 2-Pin TO-220, Tube; Manufacturer: On Semiconductor; PartNumber: MBR1635; Configuration: Single; IFSM Max (A): 150; DatasheetVersion: Rev. 11; PackageVersion: Rev. E; PackageReference: TO-220-2-221B-04_E; PackageDescription: 2-Pin Flange Mount, Vertical Straight Lead, Body 9.97 x 4.44 mm, Pitch 5.08 mm; Supplier 1: Digi-Key; Supplier Part Number 1: MBR1635OS-ND; Packing: Tube; RoHS: FALSE; Mounting Technology: Through Hole; ComponentLink1Description: Manufacturer URL; ComponentLink1URL: http://www.onsemi.com/; ComponentLink2Description: Datasheet; ComponentLink2URL: http://www.onsemi.cn/pub_link/Collateral/MBR1635-D.PDF; ComponentLink3Description: Package Specification; ComponentLink3URL: http://www.onsemi.com/pub_link/Collateral/BYW29-D.PDF
footprint ONSC-TO-220-2-221B-04_E (FM, 2-Leads, Body 10.3x4.85mm, Pitch 5.08mm)
pins: 1 K, 3 A

## MBR1635G
designator D?
SWITCHMODE(TM) Power Rectifier, 16 A, 35 V, 2-Pin TO-220, Pb-Free, Tube; Manufacturer: On Semiconductor; PartNumber: MBR1635G; Configuration: Single; IFSM Max (A): 150; DatasheetVersion: Rev. 11; PackageVersion: Rev. E; PackageReference: TO-220-2-221B-04_E; PackageDescription: 2-Pin Flange Mount, Vertical Straight Lead, Body 9.97 x 4.44 mm, Pitch 5.08 mm; Supplier 1: Digi-Key; Supplier Part Number 1: MBR1635GOS-ND; Supplier 2: Newark; Supplier Part Number 2: 26K3690; Supplier 3: Mouser; Supplier Part Number 3: 863-MBR1635G; Packing: Tube; RoHS: TRUE; Mounting Technology: Through Hole; ComponentLink1Description: Manufacturer URL; ComponentLink1URL: http://www.onsemi.com/; ComponentLink2Description: Datasheet; ComponentLink2URL: http://www.onsemi.cn/pub_link/Collateral/MBR1635-D.PDF; ComponentLink3Description: Package Specification; ComponentLink3URL: http://www.onsemi.com/pub_link/Collateral/BYW29-D.PDF
footprint ONSC-TO-220-2-221B-04_E (FM, 2-Leads, Body 10.3x4.85mm, Pitch 5.08mm)
pins: 1 K, 3 A

## MBR1645
designator D?
SWITCHMODE(TM) Power Rectifier, 16 A, 45 V, 2-Pin TO-220, Tube; Manufacturer: On Semiconductor; PartNumber: MBR1645; Configuration: Single; IFSM Max (A): 150; DatasheetVersion: Rev. 11; PackageVersion: Rev. E; PackageReference: TO-220-2-221B-04_E; PackageDescription: 2-Pin Flange Mount, Vertical Straight Lead, Body 9.97 x 4.44 mm, Pitch 5.08 mm; Supplier 1: Digi-Key; Supplier Part Number 1: MBR1645OS-ND; Packing: Tube; RoHS: FALSE; Mounting Technology: Through Hole; ComponentLink1Description: Manufacturer URL; ComponentLink1URL: http://www.onsemi.com/; ComponentLink2Description: Datasheet; ComponentLink2URL: http://www.onsemi.cn/pub_link/Collateral/MBR1635-D.PDF; ComponentLink3Description: Package Specification; ComponentLink3URL: http://www.onsemi.com/pub_link/Collateral/BYW29-D.PDF
footprint ONSC-TO-220-2-221B-04_E (FM, 2-Leads, Body 10.3x4.85mm, Pitch 5.08mm)
pins: 1 K, 3 A

## MBR1645G
designator D?
SWITCHMODE(TM) Power Rectifier, 16 A, 45 V, 2-Pin TO-220, Pb-Free, Tube; Manufacturer: On Semiconductor; PartNumber: MBR1645G; Configuration: Single; IFSM Max (A): 150; DatasheetVersion: Rev. 11; PackageVersion: Rev. E; PackageReference: TO-220-2-221B-04_E; PackageDescription: 2-Pin Flange Mount, Vertical Straight Lead, Body 9.97 x 4.44 mm, Pitch 5.08 mm; Supplier 1: Digi-Key; Supplier Part Number 1: MBR1645GOS-ND; Supplier 2: Farnell; Supplier Part Number 2: 9557253; Supplier 3: Newark; Supplier Part Number 3: 45J0800; Supplier 4: Mouser; Supplier Part Number 4: 863-MBR1645G; Packing: Tube; RoHS: TRUE; Mounting Technology: Through Hole; ComponentLink1Description: Manufacturer URL; ComponentLink1URL: http://www.onsemi.com/; ComponentLink2Description: Datasheet; ComponentLink2URL: http://www.onsemi.cn/pub_link/Collateral/MBR1635-D.PDF; ComponentLink3Description: Package Specification; ComponentLink3URL: http://www.onsemi.com/pub_link/Collateral/BYW29-D.PDF
footprint ONSC-TO-220-2-221B-04_E (FM, 2-Leads, Body 10.3x4.85mm, Pitch 5.08mm)
pins: 1 K, 3 A

## MBR2030CTL
designator D?
SWITCHMODE(TM) Dual Schottky Power Rectifiers, 3-Pin TO-220, Tube; Manufacturer: On Semiconductor; PartNumber: MBR2030CTL; Configuration: Common Cathode; IFSM Max (A): 150; DatasheetVersion: Rev. 4; PackageVersion: Rev. AA; PackageReference: TO-220-3-221A-09_AA; PackageDescription: 3-Pin Flange Mount, Vertical Straight Lead, Body 9.97 x 4.445 mm, Pitch 2.54 mm; Supplier 1: Digi-Key; Supplier Part Number 1: MBR2030CTLOS-ND; Packing: Tube; RoHS: FALSE; Mounting Technology: Through Hole; ComponentLink1Description: Manufacturer URL; ComponentLink1URL: http://www.onsemi.com/; ComponentLink2Description: Datasheet; ComponentLink2URL: http://www.onsemi.cn/pub_link/Collateral/MBR2030CTL-D.PDF; ComponentLink3Description: Package Specification; ComponentLink3URL: http://www.onsemi.com/pub_link/Collateral/MAC16C-D.PDF
footprint ONSC-TO-220-3-221A-09_AA (FM, 3-Leads, Body 10.3x4.85mm, Pitch 2.54mm)
pins: 1 A1, 2 K, 3 A2

## MBR2030CTLG
designator D?
SWITCHMODE(TM) Dual Schottky Power Rectifiers, 3-Pin TO-220, Pb-Free, Tube; Manufacturer: On Semiconductor; PartNumber: MBR2030CTLG; Configuration: Common Cathode; IFSM Max (A): 150; DatasheetVersion: Rev. 4; PackageVersion: Rev. AA; PackageReference: TO-220-3-221A-09_AA; PackageDescription: 3-Pin Flange Mount, Vertical Straight Lead, Body 9.97 x 4.445 mm, Pitch 2.54 mm; Supplier 1: Digi-Key; Supplier Part Number 1: MBR2030CTLGOS-ND; Supplier 2: Farnell; Supplier Part Number 2: 1431052; Supplier 3: Newark; Supplier Part Number 3: 45J0801; Supplier 4: Mouser; Supplier Part Number 4: 863-MBR2030CTLG; Packing: Tube; RoHS: TRUE; Mounting Technology: Through Hole; ComponentLink1Description: Manufacturer URL; ComponentLink1URL: http://www.onsemi.com/; ComponentLink2Description: Datasheet; ComponentLink2URL: http://www.onsemi.cn/pub_link/Collateral/MBR2030CTL-D.PDF; ComponentLink3Description: Package Specification; ComponentLink3URL: http://www.onsemi.com/pub_link/Collateral/MAC16C-D.PDF
footprint ONSC-TO-220-3-221A-09_AA (FM, 3-Leads, Body 10.3x4.85mm, Pitch 2.54mm)
pins: 1 A1, 2 K, 3 A2

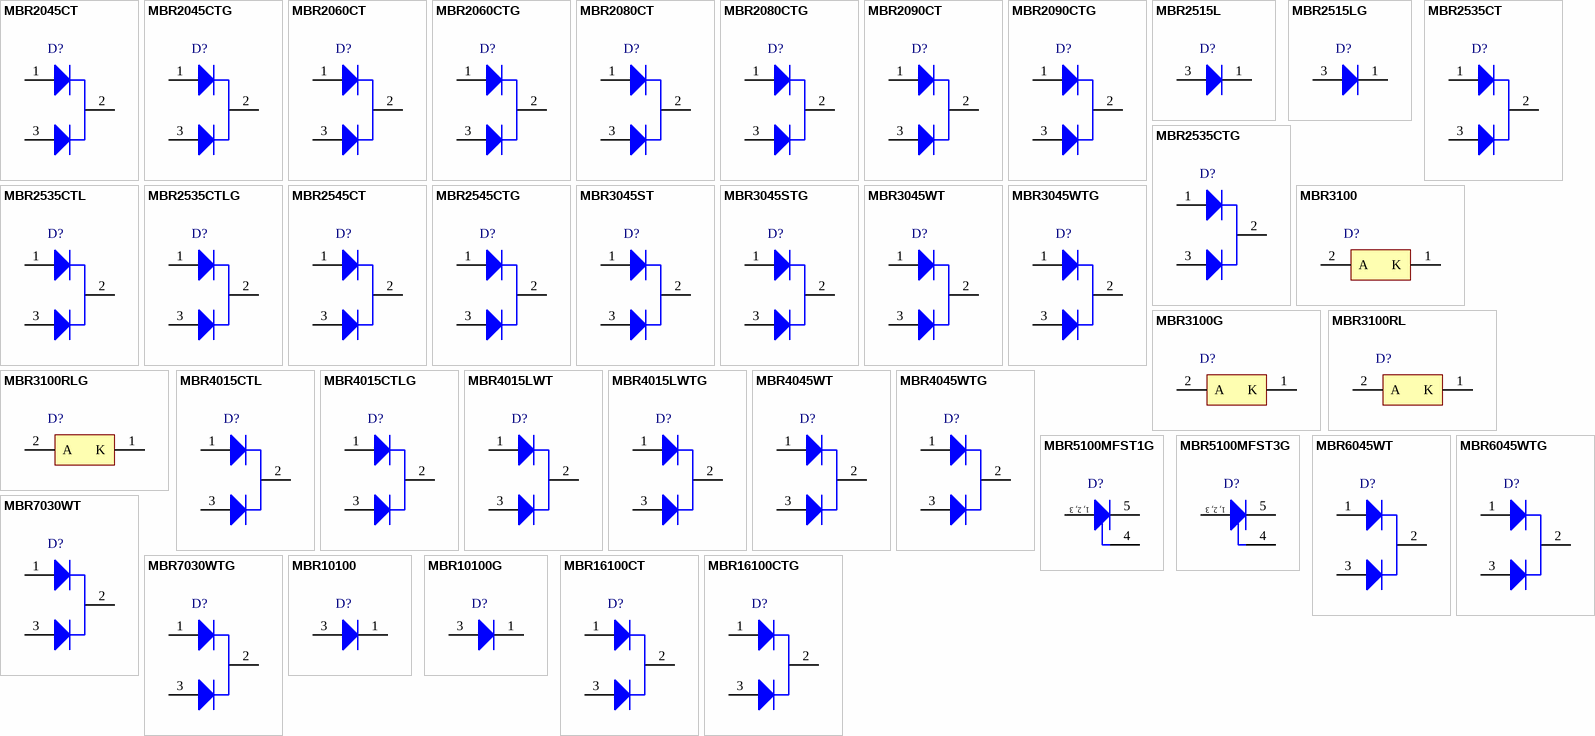
[diagram p5: symbols MBR2045CT to MBR16100CTG]

## MBR2045CT
designator D?
SWITCHMODE(TM) Power Rectifier, 3-Pin TO-220, Tube; Manufacturer: On Semiconductor; PartNumber: MBR2045CT; IFSM Max (A): 150; DatasheetVersion: Rev. 10; PackageVersion: Rev. AF; PackageReference: TO-220-3-221A-09_AF; PackageDescription: 3-Pin Flange Mount, Vertical Straight Lead, Body 9.97 x 4.445 mm, Pitch 2.54 mm; Supplier 1: Digi-Key; Supplier Part Number 1: MBR2045CTOS-ND; Packing: Tube; RoHS: FALSE; Mounting Technology: Through Hole; ComponentLink1Description: Manufacturer URL; ComponentLink1URL: http://www.onsemi.com/; ComponentLink2Description: Datasheet; ComponentLink2URL: http://www.onsemi.cn/pub_link/Collateral/MBR2045CT-D.PDF; ComponentLink3Description: Package Specification; ComponentLink3URL: http://www.onsemi.cn/pub_link/Collateral/MCR8S-D.PDF
footprint ONSC-TO-220-3-221A-09_AF (FM, 3-Leads, Body 10.3x4.85mm, Pitch 2.54mm)
pins: 1 A1, 2 K, 3 A2

## MBR2045CTG
designator D?
SWITCHMODE(TM) Power Rectifier, 3-Pin TO-220, Pb-Free, Tube; Manufacturer: On Semiconductor; PartNumber: MBR2045CTG; IFSM Max (A): 150; DatasheetVersion: Rev. 10; PackageVersion: Rev. AF; PackageReference: TO-220-3-221A-09_AF; PackageDescription: 3-Pin Flange Mount, Vertical Straight Lead, Body 9.97 x 4.445 mm, Pitch 2.54 mm; Supplier 1: Digi-Key; Supplier Part Number 1: MBR2045CTGOS-ND; Packing: Tube; RoHS: TRUE; Mounting Technology: Through Hole; ComponentLink1Description: Manufacturer URL; ComponentLink1URL: http://www.onsemi.com/; ComponentLink2Description: Datasheet; ComponentLink2URL: http://www.onsemi.cn/pub_link/Collateral/MBR2045CT-D.PDF; ComponentLink3Description: Package Specification; ComponentLink3URL: http://www.onsemi.cn/pub_link/Collateral/MCR8S-D.PDF
footprint ONSC-TO-220-3-221A-09_AF (FM, 3-Leads, Body 10.3x4.85mm, Pitch 2.54mm)
pins: 1 A1, 2 K, 3 A2